# EAGLE library part OPAMP-AD8428 (library lowfieldmri)
Analog Devices AD8428 Low-noise Instrumentation Amplifier
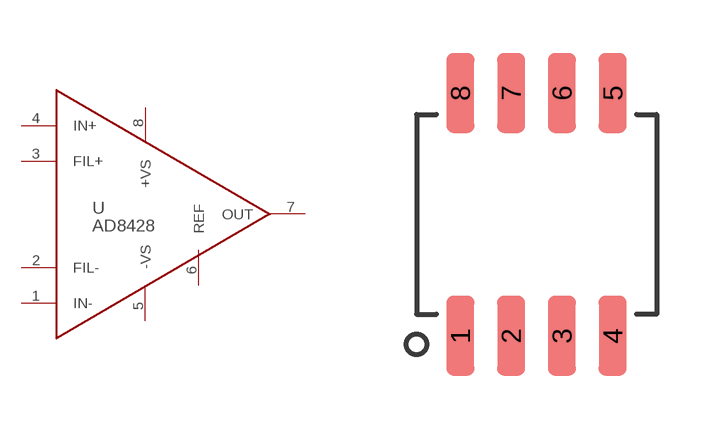
[diagram p7: symbol with the pads of SOIC-8; footprint SOIC-8]

Designator prefix -

## OPAMP-AD8428  [SOIC-8]
1  IN-
2  FIL-
3  FIL+
4  IN+
5  -VS
6  REF
7  OUT
8  +VS

## Footprint SOIC-8 (pad centres in mm)
smd 0.7 x 2: 1 -1.905,-3.04; 2 -0.635,-3.04; 3 0.635,-3.04; 4 1.905,-3.04; 5 1.905,3.04; 6 0.635,3.04; 7 -0.635,3.04; 8 -1.905,3.04